# Altium integrated library Cap_0603.IntLib: 1 symbol
Pins are listed as number, name and electrical type; pins without a type are passive.

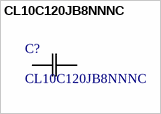
[diagram p0: symbol CL10C120JB8NNNC]

## CL10C120JB8NNNC
designator C?
No Description Available; Manufacturer_Name: Samsung; Copyright: Copyright (C) 2026 Ultra Librarian. All rights reserved.; Manufacturer_Part_Number: CL10C120JB8NNNC
footprint CAP_CL10_SAM
pins: 1, 2